# EAGLE library part ML8088 (library navia)
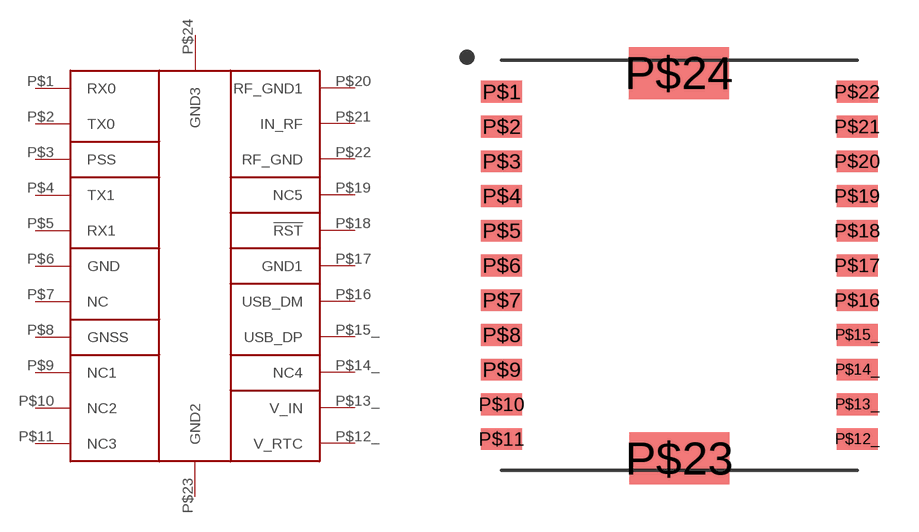
[diagram p0: symbol with the pads of ML8088; footprint ML8088]

Designator prefix GNSS

## ML8088  [ML8088]
P$1  RX0
P$2  TX0
P$3  PSS
P$4  TX1
P$5  RX1
P$6  GND
P$7  NC
P$8  GNSS  nc
P$9  NC1
P$10  NC2
P$11  NC3
P$12_  V_RTC
P$13_  V_IN
P$14_  NC4
P$15_  USB_DP
P$16  USB_DM
P$17  GND1
P$18  !RST
P$19  NC5
P$20  RF_GND1
P$21  IN_RF
P$22  RF_GND
P$23  GND2
P$24  GND3

## Footprint ML8088 (pad centres in mm)
smd 1.5 x 0.8: P$1 0,12.7; P$2 0,11.43; P$3 0,10.16; P$4 0,8.89; P$5 0,7.62; P$6 0,6.35; P$7 0,5.08; P$8 0,3.81; P$9 0,2.54; P$10 0,1.27; P$11 0,0; P$12_ 13,0; P$13_ 13,1.27; P$14_ 13,2.54; P$15_ 13,3.81; P$16 13,5.08; P$17 13,6.35; P$18 13,7.62; P$19 13,8.89; P$20 13,10.16; P$21 13,11.43; P$22 13,12.7
smd 3.65 x 1.9: P$23 6.5,-0.71; P$24 6.48,13.39